# Altium schematic symbol library SnapEDAsch.SchLib: 1 symbol
Pins are listed as number, name and electrical type; pins without a type are passive.

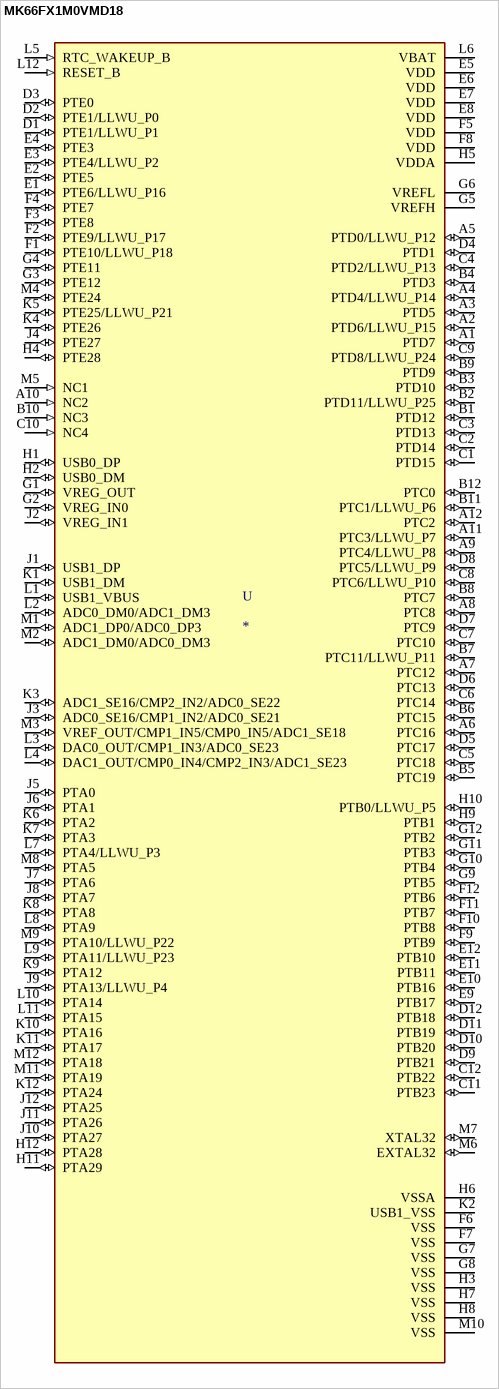
[diagram p0: symbol MK66FX1M0VMD18]

## MK66FX1M0VMD18
designator U
ARMÂ® CortexÂ®-M4 Kinetis K60 Microcontroller IC 32-Bit 180MHz 1MB _1M x 8_ FLASH 144-MAPBGA _13x13_; MP: MK66FX1M0VMD18; MF: NXP USA; SnapEDA_Link: https://www.snapeda.com/parts/MK66FX1M0VMD18/NXP%20USA%20Inc./view-part/567598/?ref=snap; Availability: Unavailable; Price: None; Value: *; Package: MAPBGA-144 NXP Semiconductors
footprint BGA144C100P12X12_1300X1300X170
pins: A1 PTD7 (io), A2 PTD6/LLWU_P15 (io), A3 PTD5 (io), A4 PTD4/LLWU_P14 (io), A5 PTD0/LLWU_P12 (io), A6 PTC16 (io), A7 PTC12 (io), A8 PTC8 (io), A9 PTC4/LLWU_P8 (io), A10 NC2 (in), A11 PTC3/LLWU_P7 (io), A12 PTC2 (io), B1 PTD12 (io), B2 PTD11/LLWU_P25 (io), B3 PTD10 (io), B4 PTD3 (io), B5 PTC19 (io), B6 PTC15 (io), B7 PTC11/LLWU_P11 (io), B8 PTC7 (io), B9 PTD9 (io), B10 NC3 (in), B11 PTC1/LLWU_P6 (io), B12 PTC0 (io), C1 PTD15 (io), C2 PTD14 (io), C3 PTD13 (io), C4 PTD2/LLWU_P13 (io), C5 PTC18 (io), C6 PTC14 (io), C7 PTC10 (io), C8 PTC6/LLWU_P10 (io), C9 PTD8/LLWU_P24 (io), C10 NC4 (in), C11 PTB23 (io), C12 PTB22 (io), D1 PTE1/LLWU_P1 (io), D2 PTE1/LLWU_P0 (io), D3 PTE0 (io), D4 PTD1 (io), D5 PTC17 (io), D6 PTC13 (io), D7 PTC9 (io), D8 PTC5/LLWU_P9 (io), D9 PTB21 (io), D10 PTB20 (io), D11 PTB19 (io), D12 PTB18 (io), E1 PTE6/LLWU_P16 (io), E2 PTE5 (io), E3 PTE4/LLWU_P2 (io), E4 PTE3 (io), E5 VDD (power), E6 VDD (power), E7 VDD (power), E8 VDD (power), E9 PTB17 (io), E10 PTB16 (io), E11 PTB11 (io), E12 PTB10 (io), F1 PTE10/LLWU_P18 (io), F2 PTE9/LLWU_P17 (io), F3 PTE8 (io), F4 PTE7 (io), F5 VDD (power), F6 VSS (power), F7 VSS (power), F8 VDD (power), F9 PTB9 (io), F10 PTB8 (io), F11 PTB7 (io), F12 PTB6 (io), G1 VREG_OUT (io), G2 VREG_IN0 (io), G3 PTE12 (io), G4 PTE11 (io), G5 VREFH (power), G6 VREFL (power), G7 VSS (power), G8 VSS (power), G9 PTB5 (io), G10 PTB4 (io), G11 PTB3 (io), G12 PTB2 (io), H1 USB0_DP (io), H2 USB0_DM (io), H3 VSS (power), H4 PTE28 (io), H5 VDDA (power), H6 VSSA (power), H7 VSS (power), H8 VSS (power), H9 PTB1 (io), H10 PTB0/LLWU_P5 (io), H11 PTA29 (io), H12 PTA28 (io), J1 USB1_DP (io), J2 VREG_IN1 (io), J3 ADC0_SE16/CMP1_IN2/ADC0_SE21 (io), J4 PTE27 (io), J5 PTA0 (io), J6 PTA1 (io), J7 PTA6 (io), J8 PTA7 (io), J9 PTA13/LLWU_P4 (io), J10 PTA27 (io), J11 PTA26 (io), J12 PTA25 (io), K1 USB1_DM (io), K2 USB1_VSS (power), K3 ADC1_SE16/CMP2_IN2/ADC0_SE22 (io), K4 PTE26 (io), K5 PTE25/LLWU_P21 (io), K6 PTA2 (io), K7 PTA3 (io), K8 PTA8 (io), K9 PTA12 (io), K10 PTA16 (io), K11 PTA17 (io), K12 PTA24 (io), L1 USB1_VBUS (io), L2 ADC0_DM0/ADC1_DM3 (io), L3 DAC0_OUT/CMP1_IN3/ADC0_SE23 (io), L4 DAC1_OUT/CMP0_IN4/CMP2_IN3/ADC1_SE23 (io), L5 RTC_WAKEUP_B (in), L6 VBAT (power), L7 PTA4/LLWU_P3 (io), L8 PTA9 (io), L9 PTA11/LLWU_P23 (io), L10 PTA14 (io), L11 PTA15 (io), L12 RESET_B (in), M1 ADC1_DP0/ADC0_DP3 (io), M2 ADC1_DM0/ADC0_DM3 (io), M3 VREF_OUT/CMP1_IN5/CMP0_IN5/ADC1_SE18 (io), M4 PTE24 (io), M5 NC1 (in), M6 EXTAL32 (io), M7 XTAL32 (io), M8 PTA5 (io), M9 PTA10/LLWU_P22 (io), M10 VSS (power), M11 PTA19 (io), M12 PTA18 (io)